# EAGLE library part FAN4800 (library FAN4800)
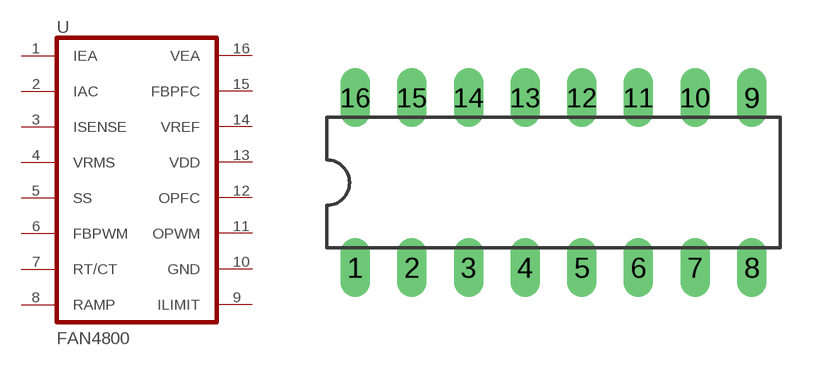
[diagram p0: symbol with the pads of DIL16; footprint DIL16]

Designator prefix -

## FAN4800  [DIL16]
1  IEA
2  IAC
3  ISENSE
4  VRMS
5  SS
6  FBPWM
7  RT/CT
8  RAMP
9  ILIMIT
10  GND
11  OPWM
12  OPFC
13  VDD
14  VREF
15  FBPFC
16  VEA

## Footprint DIL16 (pad centres in mm)
Dual In Line Package
drill 0.813 long: 1 -8.89,-3.81; 2 -6.35,-3.81; 3 -3.81,-3.81; 4 -1.27,-3.81; 5 1.27,-3.81; 6 3.81,-3.81; 7 6.35,-3.81; 8 8.89,-3.81; 9 8.89,3.81; 10 6.35,3.81; 11 3.81,3.81; 12 1.27,3.81; 13 -1.27,3.81; 14 -3.81,3.81; 15 -6.35,3.81; 16 -8.89,3.81